# Altium integrated library Opt-coplr 1 Channel 4-SSOP SMT VOS617A-8X001T.IntLib: 1 symbol
Pins are listed as number, name and electrical type; pins without a type are passive.

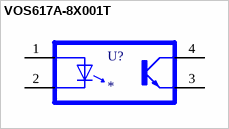
[diagram p0: symbol VOS617A-8X001T]

## VOS617A-8X001T
designator U?
MP: VOS617A-8X001T; Package: None; Price: None; Value: *; Availability: Unavailable
footprint SOIC127P700X210-4N
pins: 1 A, 2 C, 3 E, 4 CO